# Altium schematic symbol library CapacitorsSymbol.SchLib: 2 symbols
Pins are listed as number, name and electrical type; pins without a type are passive.

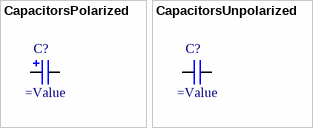
[diagram p0: symbols CapacitorsPolarized to CapacitorsUnpolarized]

## CapacitorsPolarized
designator C?
Полярный конденсатор
pins: 1 P, 2 N

## CapacitorsUnpolarized
designator C?
Керамический конденсатор
pins: 1, 2